# Altium footprint library IC_Packages.PcbLib: 29 footprints (part 1 of 2)
Each footprint in its own frame and in the unit in brackets; x right, y up, seen from the top. Pads: shape width x height; smd on the part's side, far side on the other; paste and mask are expansions set on the pad; w line width, h text height; cw(c..) or ccw(c..) is an arc to the next point about the centre after c.
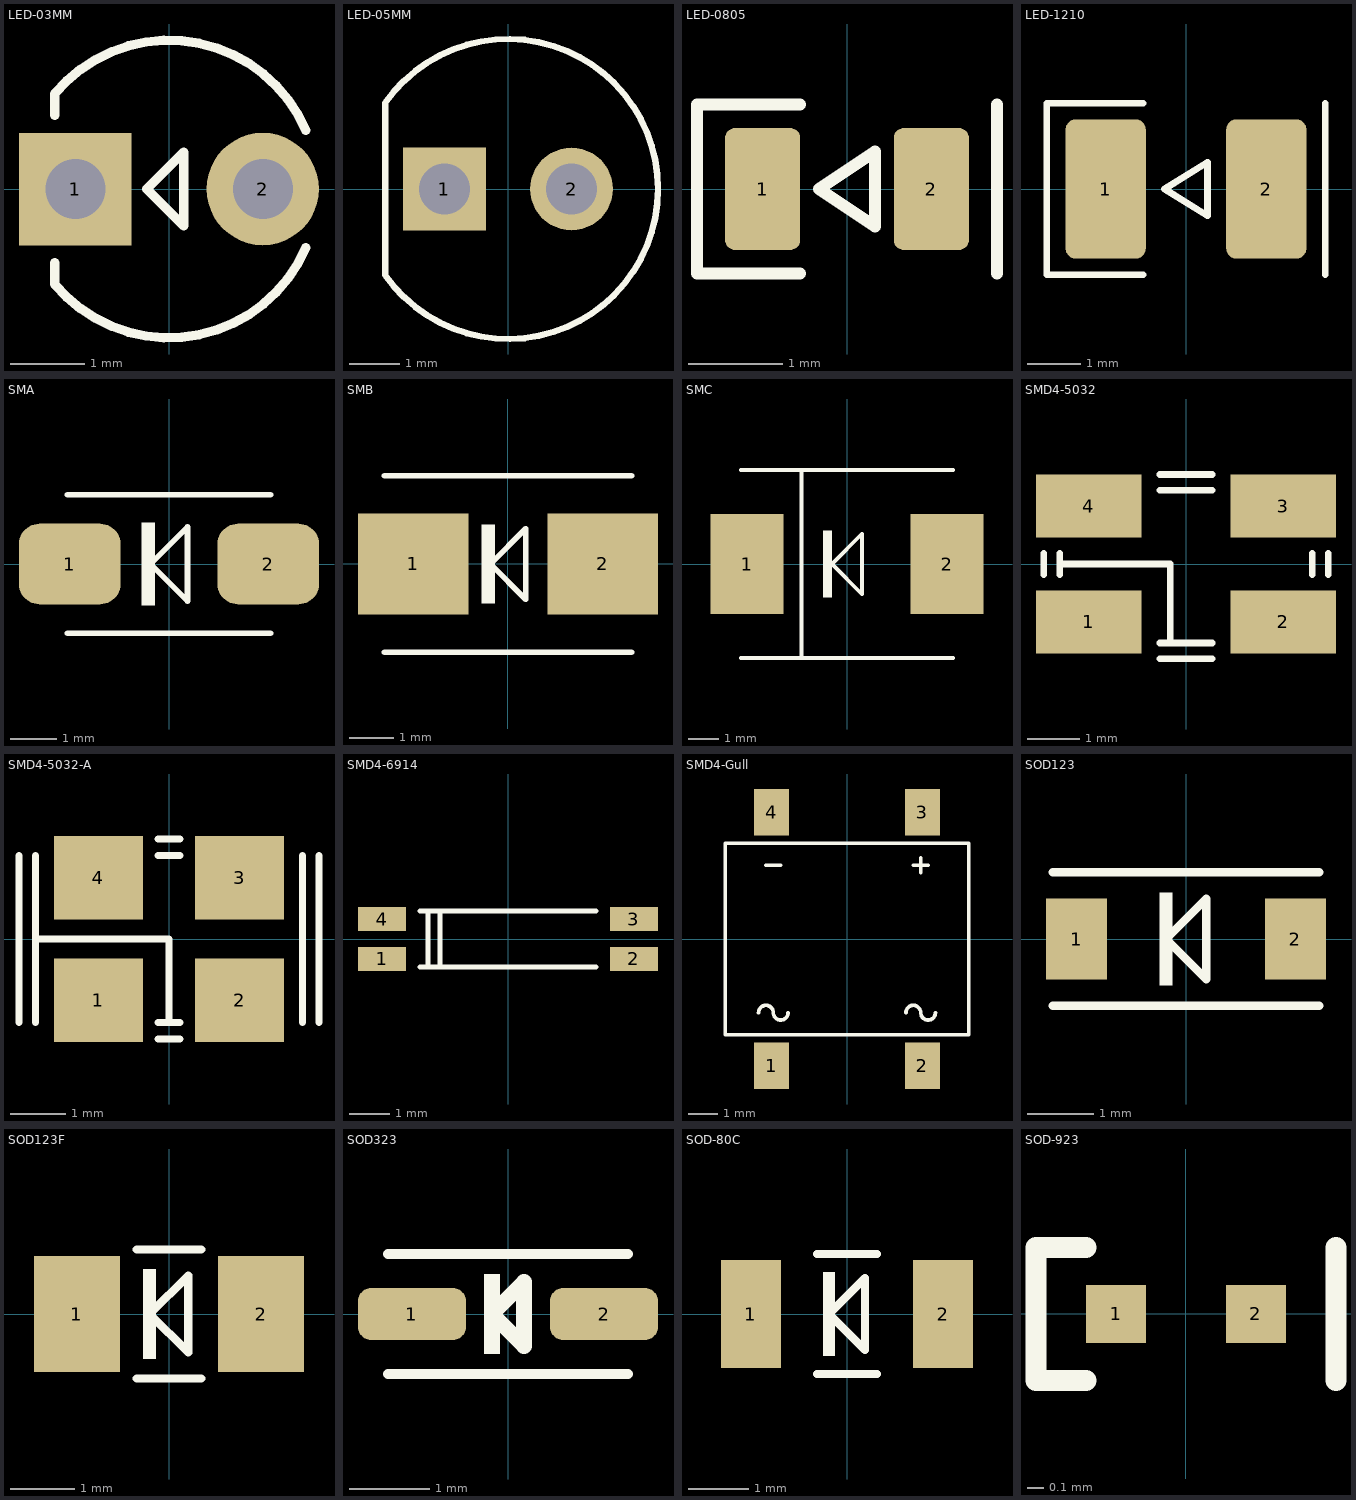
[diagram p0: the footprints below, top view; thin cyan lines are the x and y axes]

## LED-03MM [mil] "SMT LED DIODE 3 mm"
pads (2):
  rect 60x60 hole 32: 1(-50,0)
  round 60 hole 32: 2(50,0)
Top Overlay:
  lines w5: -61.02,-39.37 -61.02,-50.74 ; -61.02,39.37 -61.02,50.74 -60.96,50.8 cw(c0,0) 72.94,31.26 ; 72.94,-31.26 cw(c0,0) -60.96,-50.8 ; -61.02,-50.74 -60.96,-50.8 ; -61.02,-50.74 -60.96,-50.8 ; -11.81,0 7.87,-19.68 7.87,19.68 -11.81,0
3D body "LED-3MM.STEP": height 255.91, standoff -78.74, extent -62.99,-74.8 74.8,74.81

## LED-05MM [mil] "SMT LED DIODE 5 mm"
pads (2):
  rect 65x65 hole 40: 1(-50,0)
  round 65 hole 40: 2(50,0)
Top Overlay:
  lines w5: -96.75,-67.75 ccw(c0,0) 118.11,0 ccw(c0,0) -96.75,67.75 -96.75,-67.75
3D body "LED-5MM-R.STEP": height 504.75, standoff -77.93, extent -96.07,-118.5 117.32,118.5

## LED-0805 [mm] "SMT LED DIODE 0805"
height 1.5
pads (2):
  rrect25% 0.8x1.3 smd: 1(-0.9,0) 2(0.9,0)
Top Overlay:
  lines w0.127: -0.5,-0.9 -1.6,-0.9 -1.6,0.9 -0.5,0.9 ; 1.6,-0.9 1.6,0.9 ; -0.3,0 0.3,0.4 0.3,-0.4 -0.3,0
3D body "LED0805-R.STEP": height 1.1, standoff 0, extent -1.01,-0.625 1.01,0.625

## LED-1210 [mm] "SMT LED DIODE 1210"
height 0.032
pads (2):
  rrect25% 1.5x2.6 smd: 1(-1.5,0) 2(1.5,0)
Top Overlay:
  lines w0.127: -0.8,-1.6 -2.6,-1.6 -2.6,1.6 -0.8,1.6 ; 2.6,-1.6 2.6,1.6 ; -0.4,0 0.4,0.5 0.4,-0.5 -0.4,0
3D body "LED1210.STEP": height 1.86, standoff 0, extent -1.75,-1.4 1.75,1.4

## SMA [mm] "SMA, DO-214AC -  Package"
pads (2):
  rrect50% 2.2x1.75 smd: 1(-2.15,0) 2(2.15,0)
Top Overlay:
  rectangle: -0.6,-0.9 -0.3,0.9
  lines w0.127: -2.2,-1.5 2.2,-1.5 ; -2.2,1.5 2.2,1.5 ; -0.4,0 0.4,0.8 0.4,-0.8 -0.4,0
3D body "SMA.STEP": height 2.45, standoff 0.05, extent -2.6,-1.3 2.6,1.3

## SMB [mm] "SMB, DO-214AA -  Package"
height 1.25
pads (2):
  rect 2.5x2.3 smd: 1(-2.15,0) 2(2.15,0)
Top Overlay:
  rectangle: -0.6,-0.9 -0.3,0.9
  lines w0.127: -2.8,-2 2.8,-2 ; -2.8,2 2.8,2 ; -0.4,0 0.4,0.8 0.4,-0.8 -0.4,0
3D body "SMB.STEP": height 2.3, standoff 0, extent -2.7,-1.8 2.7,1.8

## SMC [mm] "SMB, DO-214AB -  Package"
pads (2):
  rect 2.4x3.3 smd: 1(-3.3,0) 2(3.3,0)
Top Overlay:
  rectangle: -0.8,-1.1 -0.5,1.1
  lines w0.127: -3.5,-3.1 3.5,-3.1 ; -3.5,3.1 3.5,3.1 ; -1.5,-3.1 -1.5,3.1 ; -0.5,0 0.5,1 0.5,-1 -0.5,0
3D body "SMC.STEP": height 2.4, standoff -0.05, extent -3.9,-2.95 3.9,2.95

## SMD4-5032 [mm] "4-SMD, No Lead. 0.197\" L x 0.126\" W (5.00mm x 3.20mm)"
height 1.25
pads (4):
  rect 2x1.2 smd: 1(-1.85,-1.1) 2(1.85,-1.1) 3(1.85,1.1) 4(-1.85,1.1)
Top Overlay:
  lines w0.127: -2.7,-0.2 -2.7,0.2 ; -2.4,-0.2 -2.4,0.2 ; -2.4,0 -0.3,0 -0.3,-1.5 ; -0.5,-1.8 0.5,-1.8 ; -0.5,-1.5 0.5,-1.5 ; -0.5,1.4 0.5,1.4 ; -0.5,1.7 0.5,1.7 ; 2.4,-0.2 2.4,0.2 ; 2.7,-0.2 2.7,0.2
3D body "SMD4-5032.STEP": height 0.9, standoff 0, extent -2.5,-1.6 2.5,1.6

## SMD4-5032-A [mm] "4-SMD, No Lead. 0.197\" L x 0.126\" W (5.00mm x 3.20mm)"
height 1.25
pads (4):
  rect 1.6x1.5 smd: 1(-1.27,-1.1) 2(1.27,-1.1) 3(1.27,1.1) 4(-1.27,1.1)
Top Overlay:
  lines w0.127: -2.7,-1.5 -2.7,1.5 ; -2.4,-1.5 -2.4,1.5 ; -2.4,0 0,0 0,-1.5 ; -0.2,-1.8 0.2,-1.8 ; -0.2,-1.5 0.2,-1.5 ; -0.2,1.5 0.2,1.5 ; -0.2,1.8 0.2,1.8 ; 2.4,-1.5 2.4,1.5 ; 2.7,-1.5 2.7,1.5
3D body "SMD4-5032-A.STEP": height 1.73, standoff 0.41, extent -2.473,-1.6 2.527,1.6

## SMD4-6914 [mm] "4-SMD, Flat Leads.  0.272\" L x 0.055\" W (6.90mm x 1.40mm)"
height 1.25
pads (4):
  rect 1.2x0.6 smd: 1(-3.15,-0.5) 2(3.15,-0.5) 3(3.15,0.5) 4(-3.15,0.5)
Top Overlay:
  lines w0.127: -2.2,-0.7 2.2,-0.7 ; -2.2,0.7 2.2,0.7 ; -2,-0.7 -2,0.7 ; -1.7,-0.7 -1.7,0.7
3D body "SMD4-6914.STEP": height 1.3, standoff 0, extent -3.45,-0.7 3.45,0.7

## SMD4-Gull [mm] "4-SMD, Gull wing"
pads (4):
  rect 1.2x1.6 smd: 1(-2.6,-4.37) 2(2.6,-4.37) 3(2.6,4.37) 4(-2.6,4.37)
Top Overlay:
  lines w0.127: -3.048,-2.54 cw(c-2.794,-2.54) -2.54,-2.54 ccw(c-2.286,-2.54) -2.032,-2.54 ; -2.794,2.54 -2.286,2.54 ; 2.032,-2.54 cw(c2.286,-2.54) 2.54,-2.54 ccw(c2.794,-2.54) 3.048,-2.54 ; 2.286,2.54 2.794,2.54 ; 2.54,2.286 2.54,2.794 ; -4.191,-3.302 -4.191,3.302 4.191,3.302 4.191,-3.302 -4.191,-3.302
3D body "SMD4-DIODE-Gull.STEP": height 2.61, standoff 0.02, extent -4.085,-5.156 4.115,5.144

## SOD123 [mil] "SOD123"
pads (2):
  rect 36x48 smd: 1(-64.5,0) 2(64.5,0)
Top Overlay:
  rectangle: -15.75,-27.56 -7.87,27.56
  lines w5: -78.74,-39.37 78.74,-39.37 ; -78.74,39.37 78.74,39.37 ; -11.81,0 11.81,-23.62 11.81,23.62 -11.81,0
3D body "SOD123.STEP": height 56.89, standoff -0.2, extent -75.79,-33.46 75.79,33.47

## SOD123F [mm] "SOD123F"
pads (2):
  rect 1.34x1.8 smd: 1(-1.43,0) 2(1.43,0)
Top Overlay:
  rectangle: -0.4,-0.7 -0.2,0.7
  lines w0.127: -0.5,-1 0.5,-1 ; -0.5,1 0.5,1 ; -0.3,0 0.3,-0.6 0.3,0.6 -0.3,0
3D body "SOD123F.STEP": height 1.71, standoff 0.5, extent -1.9,-0.85 1.85,0.85

## SOD323 [mm] "SOD323,  SC-76 (3.75mm x 0.65mm)"
pads (2):
  rrect50% 1.35x0.65 smd: 1(-1.2,0) 2(1.2,0)
Top Overlay:
  rectangle: -0.3,-0.5 -0.1,0.5
  lines w0.127: -1.5,-0.75 1.5,-0.75 ; -1.5,0.75 1.5,0.75
  lines w0.2: -0.2,0 0.2,0.4 0.2,-0.4 -0.2,0
3D body "SOD323-1.STEP": height 1.1, standoff 0, extent -1.3,-0.675 1.3,0.675

## SOD-80C [mm] "SOD-80C"
pads (2):
  rect 1x1.8 smd: 1(-1.6,0) 2(1.6,0)
Top Overlay:
  rectangle: -0.4,-0.7 -0.2,0.7
  lines w0.127: -0.5,-1 0.5,-1 ; -0.5,1 0.5,1 ; -0.3,0 0.3,0.6 0.3,-0.6 -0.3,0
3D body "SOD123F.STEP": height 1.71, standoff 0.5, extent -1.9,-0.85 1.85,0.85

## SOD-923 [mm] "SOD923 SOD-923"
pads (2):
  rect 0.36x0.35 smd: 1(-0.42,0) 2(0.42,0)
Top Overlay:
  lines w0.127: -0.6,-0.4 -0.9,-0.4 -0.9,0.4 -0.6,0.4 ; 0.9,-0.4 0.9,0.4
3D body "SOD-923.STEP": height 0.43, standoff 0, extent -0.525,-0.325 0.525,0.325